# EAGLE library part LIS3DH (library firefly)
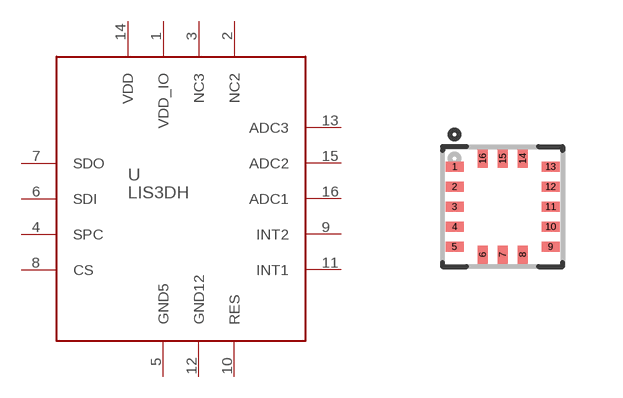
[diagram p2: symbol with the pads of LGA16_3X3; footprint LGA16_3X3]

Designator prefix -

## LIS3DH  [LGA16_3X3]
1  VDD_IO
2  NC2
3  NC3
4  SPC
5  GND5
6  SDI
7  SDO
8  CS
9  INT2
10  RES
11  INT1
12  GND12
13  ADC3
14  VDD
15  ADC2
16  ADC1

## Footprint LGA16_3X3 (pad centres in mm)
smd 0.45 x 0.25: 1 -1.2,1; 2 -1.2,0.5; 3 -1.2,0; 4 -1.2,-0.5; 5 -1.2,-1; 9 1.2,-1; 10 1.2,-0.5; 11 1.2,0; 12 1.2,0.5; 13 1.2,1
smd 0.25 x 0.45: 6 -0.5,-1.2; 7 0,-1.2; 8 0.5,-1.2; 14 0.5,1.2; 15 0,1.2; 16 -0.5,1.2